# Altium schematic symbol library OPAMP.SchLib: 7 symbols
Pins are listed as number, name and electrical type; pins without a type are passive.

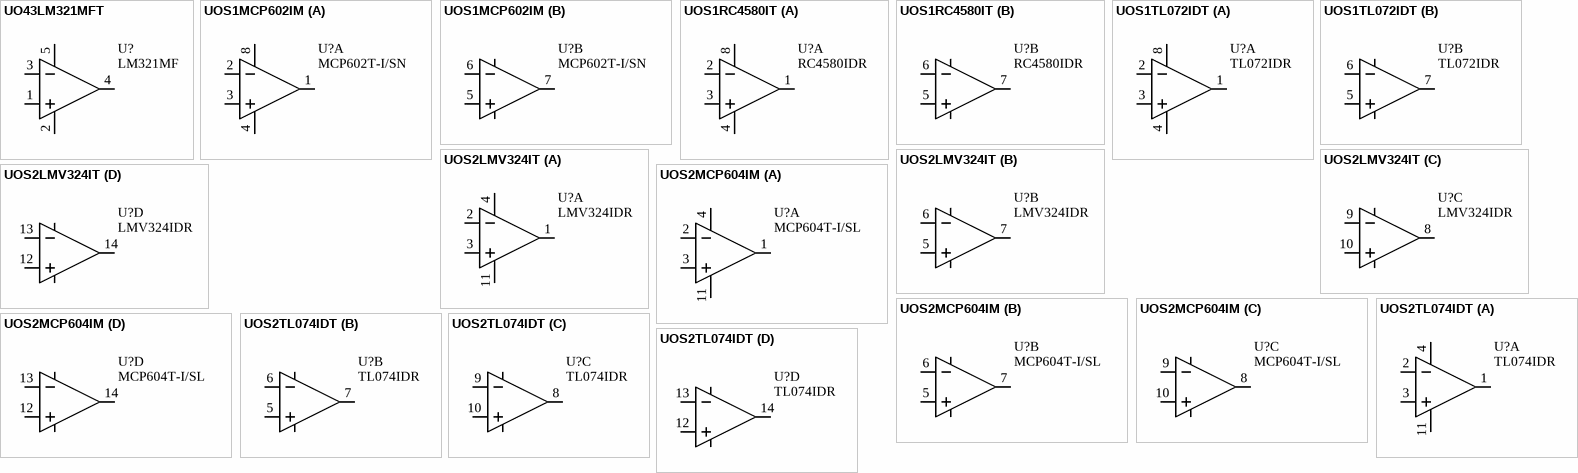
[diagram p0: symbols UO43LM321MFT to UOS2TL074IDT]

## UO43LM321MFT
designator U?, comment LM321MF
Single OP-AMP LM321  Vcc 3V~32V Vio 2mV; Manufacturer: TI; TemperatureRange: -40°C to 85°C; Publisher: GreenBox; Published: 1-Jan-2016; PackageReference: SOT-23-5; MountType: SMT; VenderID: LM321MF; PackageDescription: 14-Pin Small Outline Integrated Circuit 1.27 mm Pitch
footprint SOT-23-5 (SOT23-5, 5-Leads, Body 2.9x1.3mm, Pitch 0.95mm, Lead Span 2.5mm)
pins: 1, 2, 3, 4, 5

## UOS1MCP602IM
designator U?, comment MCP602T-I/SN
Dual Rail To Rail Operational Amplifier MCP602T-I/SN Vcc 2.7V~5.5V Vio 2mV; Manufacturer: MICROCHIP; TemperatureRange: -40°C to 85°C; Publisher: GreenBox; Published: 1-Jan-2016; PackageReference: SOIC(8); MountType: SMT; VenderID: MCP602T-I/SN; PackageDescription: 8-Pin Small Outline Integrated Circuit 1.27 mm Pitch
footprint SO-8_N (8-Pin Small Outline Integrated Circuit 1.27 mm Pitch, IPC Medium Density)
footprint SO-8_L (8-Pin Small Outline Integrated Circuit 1.27 mm Pitch, IPC High Density)
footprint SO-8_M (8-Pin Small Outline Integrated Circuit 1.27 mm Pitch, IPC Low Density)
part A pins: 1, 2, 3, 4, 8
part B pins: 5, 6, 7

## UOS1RC4580IT
designator U?, comment RC4580IDR
Dual Operational Amplifier RC4580IDR Vcc ±18V Vio 0.5mV; Manufacturer: TEXAS INSTRUMENTS; TemperatureRange: -40°C to 85°C; Publisher: GreenBox; Published: 1-Jan-2016; PackageReference: SOIC(8); MountType: SMT; VenderID: RC4580IDR; PackageDescription: 8-Pin Small Outline Integrated Circuit 1.27 mm Pitch
footprint SO-8_N (8-Pin Small Outline Integrated Circuit 1.27 mm Pitch, IPC Medium Density)
footprint SO-8_L (8-Pin Small Outline Integrated Circuit 1.27 mm Pitch, IPC High Density)
footprint SO-8_M (8-Pin Small Outline Integrated Circuit 1.27 mm Pitch, IPC Low Density)
part A pins: 1, 2, 3, 4, 8
part B pins: 5, 6, 7

## UOS1TL072IDT
designator U?, comment TL072IDR
Dual Operational Amplifier TL072IDR Vcc ±18V Vio 3mV; Manufacturer: TEXAS INSTRUMENTS; TemperatureRange: -40°C to 85°C; Publisher: GreenBox; Published: 1-Jan-2016; PackageReference: SOIC(8); MountType: SMT; VenderID: TL072IDR; PackageDescription: 8-Pin Small Outline Integrated Circuit 1.27 mm Pitch
footprint SO-8_N (8-Pin Small Outline Integrated Circuit 1.27 mm Pitch, IPC Medium Density)
footprint SO-8_L (8-Pin Small Outline Integrated Circuit 1.27 mm Pitch, IPC High Density)
footprint SO-8_M (8-Pin Small Outline Integrated Circuit 1.27 mm Pitch, IPC Low Density)
part A pins: 1, 2, 3, 4, 8
part B pins: 5, 6, 7

## UOS2LMV324IT
designator U?, comment LMV324IDR
QUAD OP-AMP LMV324IDR Vcc 2.7V~5.0V Vio 1.7mV; Manufacturer: TEXAS INSTRUMENTS; TemperatureRange: -40°C to 85°C; Publisher: GreenBox; Published: 1-Jan-2016; PackageReference: SOIC(14); MountType: SMT; VenderID: LMV324IDR; PackageDescription: 14-Pin Small Outline Integrated Circuit 1.27 mm Pitch
footprint SO-14_N (14-Pin Small Outline Integrated Circuit 1.27 mm Pitch, IPC Medium Density)
footprint SO-14_L (14-Pin Small Outline Integrated Circuit 1.27 mm Pitch, IPC High Density)
footprint SO-14_M (14-Pin Small Outline Integrated Circuit 1.27 mm Pitch, IPC Low Density)
part A pins: 1, 2, 3, 4, 11
part B pins: 5, 6, 7
part C pins: 8, 9, 10
part D pins: 12, 13, 14

## UOS2MCP604IM
designator U?, comment MCP604T-I/SL
QUAD OP-AMP MCP604T-I/SL Vcc 2.7V~6.0V Vio 1mV; Manufacturer: MICROCHIP; TemperatureRange: -40°C to 85°C; Publisher: GreenBox; Published: 1-Jan-2016; PackageReference: SOIC(14); MountType: SMT; VenderID: MCP604T-I/SL; PackageDescription: 14-Pin Small Outline Integrated Circuit 1.27 mm Pitch
footprint SO-14_N (14-Pin Small Outline Integrated Circuit 1.27 mm Pitch, IPC Medium Density)
footprint SO-14_L (14-Pin Small Outline Integrated Circuit 1.27 mm Pitch, IPC High Density)
footprint SO-14_M (14-Pin Small Outline Integrated Circuit 1.27 mm Pitch, IPC Low Density)
part A pins: 1, 2, 3, 4, 11
part B pins: 5, 6, 7
part C pins: 8, 9, 10
part D pins: 12, 13, 14

## UOS2TL074IDT
designator U?, comment TL074IDR
Dual RailQUAD OP-AMP TL074IDR Vcc ±18V Vio 3mV; Manufacturer: TEXAS INSTRUMENTS; TemperatureRange: -40°C to 85°C; Publisher: GreenBox; Published: 1-Jan-2016; PackageReference: SOIC(14); MountType: SMT; VenderID: TL074IDR; PackageDescription: 14-Pin Small Outline Integrated Circuit 1.27 mm Pitch
footprint SO-14_N (14-Pin Small Outline Integrated Circuit 1.27 mm Pitch, IPC Medium Density)
footprint SO-14_L (14-Pin Small Outline Integrated Circuit 1.27 mm Pitch, IPC High Density)
footprint SO-14_M (14-Pin Small Outline Integrated Circuit 1.27 mm Pitch, IPC Low Density)
part A pins: 1, 2, 3, 4, 11
part B pins: 5, 6, 7
part C pins: 8, 9, 10
part D pins: 12, 13, 14